# EAGLE library part WE-BMS_74942402 (library Wurth_Signal & Communications_WE-BMS)
WE-BMS Transformer for Battery Management Systems Characteristics Supports BMS isolation Supports serial daisy chain isoSPI and SPI 800 VDC and 1000 VDC working voltage AEC-Q200 qualification Operating temperature: -40°C up to +125°C Applications Solar energy storage Energy Storage systems Uninterrupted Power Supply (UPS) E-bikes, E-scooters <https://www.we-online.com/components/media/o489329v209%20UtBMS_Group.jpg> Details see: www.we-online.com/en/components/products/WE-BMS <www.we-online.com/catalog/WE-BMS/?utm_source=eagle_model&utm_medium=description_link&utm_campaign=eisos_eagle> Created by Ella Wu 2024-04-08 2024 (C) Würth Elektronik
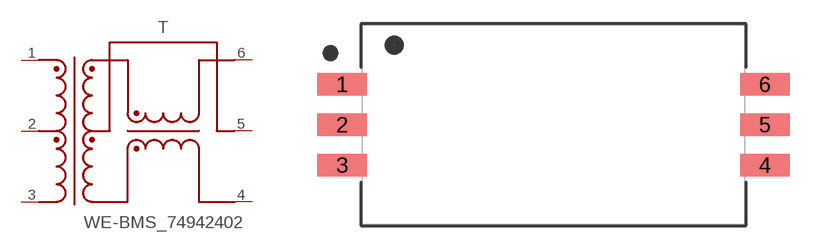
[diagram p0: symbol with the pads of WE-BMS_74942402; footprint WE-BMS_74942402]

Designator prefix T

## WE-BMS_74942402 (CREEPAGE-DISTANCE: 15mm; DATASHEET-URL: https://www.we-online.com/redexpert/spec/74942402?ae; HEIGHT: 7.3mm; INSULATION-TEST-VOLTAGE: 6400V(DC); LENGTH: 12.5mm; MOUNT: SMT; NUMBER-OF-PORTS: 1; PART-NUMBER: 74942402; VALUE: 74942402; WIDTH: 28mm; WORKING-VOLTAGE: 1500V(DC))  [WE-BMS_74942402]
1  1  pas
2  2  pas
3  3  pas
4  4  pas
5  5  pas
6  6  pas

## Footprint WE-BMS_74942402 (pad centres in mm)
smd 3.1 x 1.4: 1 -13.275,2.54; 2 -13.275,0; 3 -13.275,-2.54; 4 13.275,-2.54; 5 13.275,0; 6 13.275,2.54